# EAGLE library part КР1211ЕУ1 (library 1211eu1)
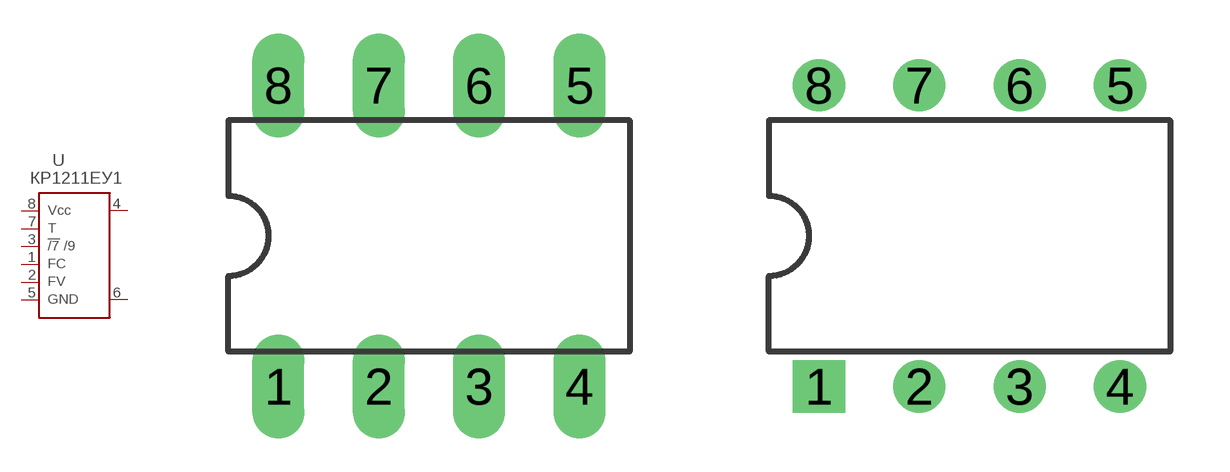
[diagram p0: symbol with the pads of DIL08; footprints DIL08, DIL8]

Designator prefix -

## КР1211ЕУ1""  [DIL08]
1  FC  in
2  FV  in
3  IN  in
4  OUT2  out
5  GND  pwr
6  OUT1  out
7  T  in
8  VCC  pwr

## КР1211ЕУ1, КР1211ЕУ1""  [DIL8]
Pads as for DIL08

## Footprint DIL08 (pad centres in mm)
Dual In Line Package
drill 0.813 long: 1 -3.81,-3.81; 2 -1.27,-3.81; 3 1.27,-3.81; 4 3.81,-3.81; 5 3.81,3.81; 6 1.27,3.81; 7 -1.27,3.81; 8 -3.81,3.81

## Footprint DIL8 (pad centres in mm)
drill 0.813 square: 1 -3.81,-3.81
drill 0.813: 2 -1.27,-3.81; 3 1.27,-3.81; 4 3.81,-3.81; 5 3.81,3.81; 6 1.27,3.81; 7 -1.27,3.81; 8 -3.81,3.81